# Altium schematic symbol library DIODE.Schlib: 1 symbol
Pins are listed as number, name and electrical type; pins without a type are passive.

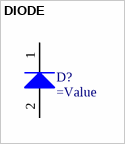
[diagram p0: symbol DIODE]

## DIODE
designator D?
=Description
pins: 1 K, 2 A